# Altium footprint library czc.PcbLib: 157 footprints (part 2 of 10)
Each footprint in its own frame and in the unit in brackets; x right, y up, seen from the top. Pads: shape width x height; smd on the part's side, far side on the other; paste and mask are expansions set on the pad; w line width, h text height; cw(c..) or ccw(c..) is an arc to the next point about the centre after c.
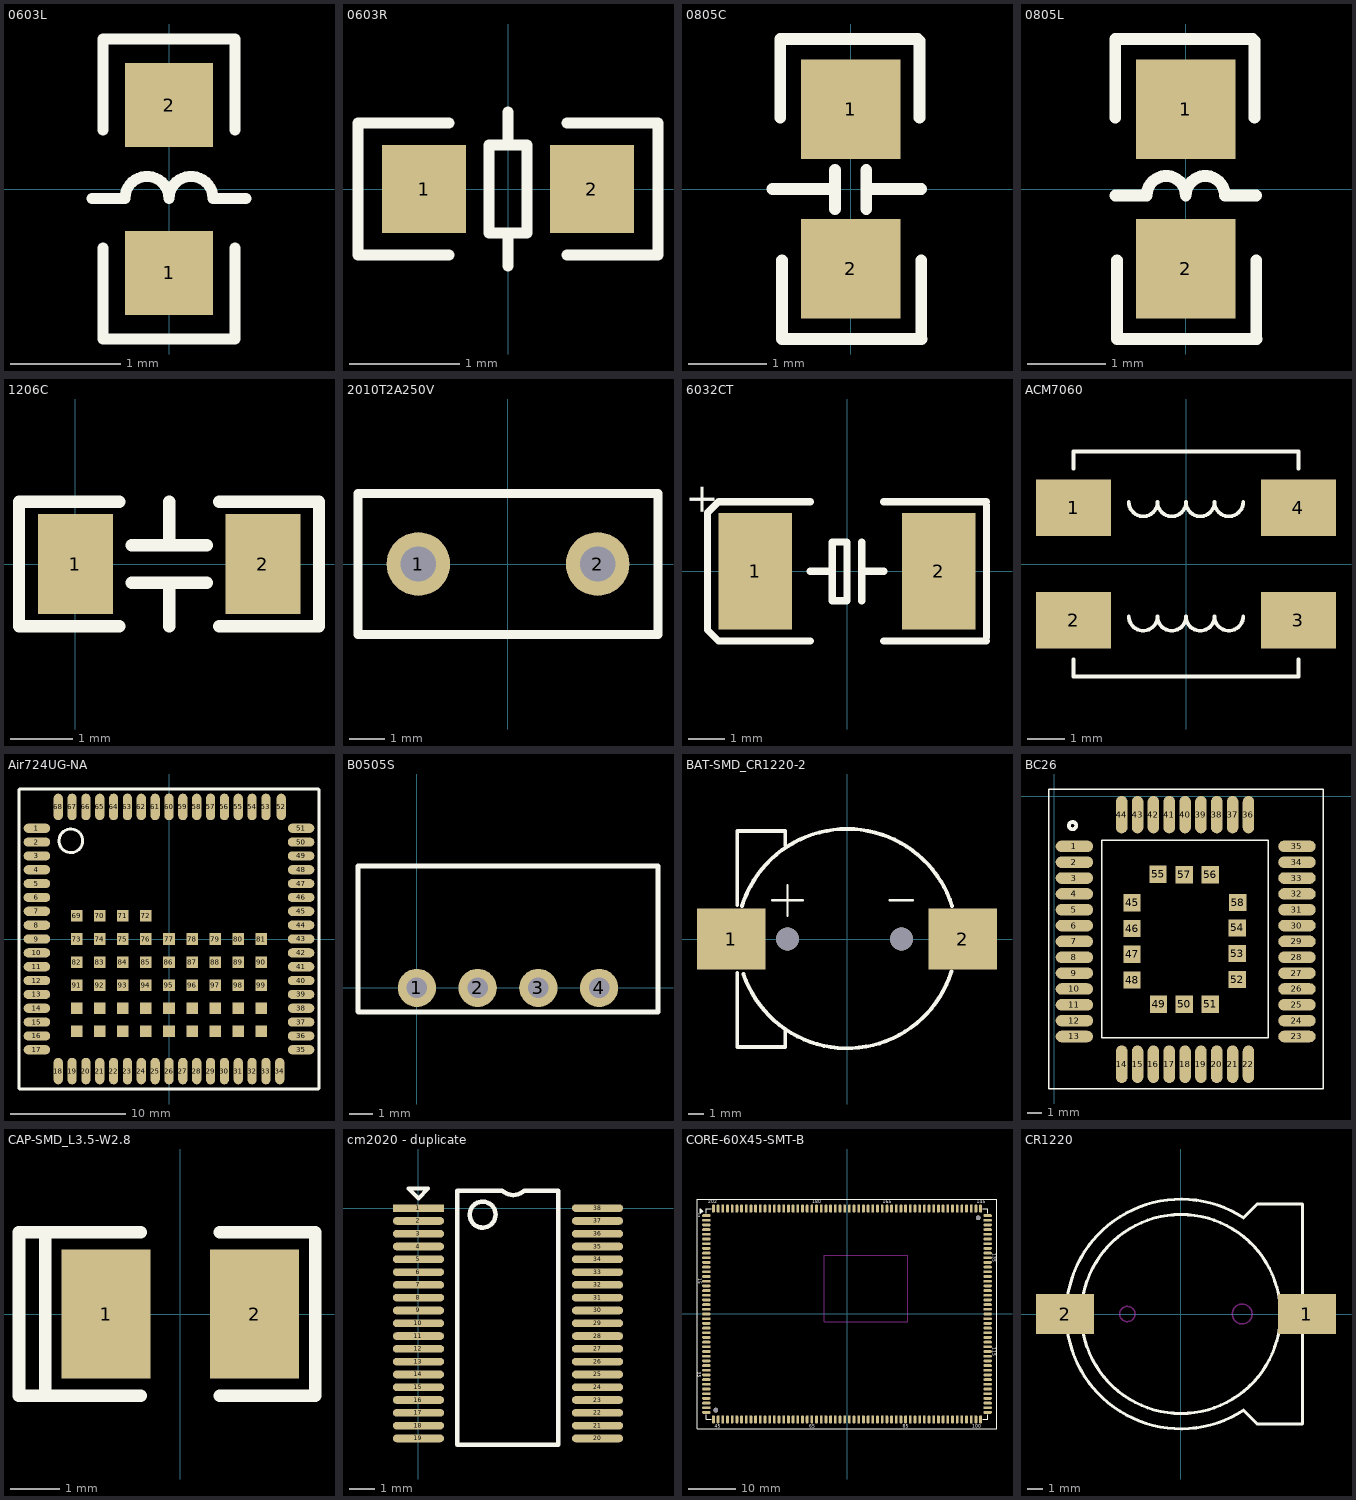
[diagram p1: the footprints below, top view; thin cyan lines are the x and y axes]

## 0603L [mil]
pads (2):
  rect 31.5x30 smd: 1(0,-30) 2(0,30)
Top Overlay:
  lines w3.94: -27.56,-3.38 -15.75,-3.38 cw(c-7.87,-3.38) 0,-3.38 cw(c7.87,-3.38) 15.75,-3.38 27.56,-3.38 ; -23.62,-21.18 -23.62,-53.62 23.62,-53.62 23.62,-21.18 ; -23.62,21.18 -23.62,53.62 23.62,53.62 23.62,21.18
3D body "User Library-FB_1608-1.STEP": height 15.75, standoff -15.75, extent -16.5,-31.5 15,31.5

## 0603R [mil]
pads (2):
  rect 30x31.5 smd: 1(-30,0) 2(30,0)
Top Overlay:
  lines w3.94: -21.18,-23.62 -53.62,-23.62 -53.62,23.62 -21.18,23.62 ; 0,-27.56 0,-15.75 ; 0,15.75 0,27.56 ; 21.18,-23.62 53.62,-23.62 53.62,23.62 21.18,23.62 ; -6.86,-15.75 6.86,-15.75 6.86,15.75 -6.86,15.75 -6.86,-15.75
3D body "RES0603.STEP": height 17.72, standoff 0, extent -31.49,-16.14 31.51,16.15
3D body: height 47.24, standoff 0, extent -30,0 -30,0

## 0805C [mil]
pads (2):
  rect 50x50 smd: 1(0,40) 2(0,-40)
Top Overlay:
  lines w5: 33.7,75.43 34.57,74.57
  lines w5.91: -39.37,0 -7.87,0 ; -35.43,35.87 -35.43,55.87 -35.43,75.43 33.7,75.43 ; -34.57,-75.43 35.67,-75.43 ; -34.57,-75.04 -34.57,-55.87 -34.57,-35.87 ; -7.87,-10.12 -7.87,9.57 ; 7.87,-10.12 7.87,9.57 ; 7.87,0 35.43,0 ; 34.57,35.87 34.57,55.87 34.57,74.57 ; 35.43,-75.2 35.43,-55.87 35.43,-35.87
3D body "Capacitor 0805 SMD.step": height 36.61, standoff -0.39, extent -30,-64.06 25.12,54.06

## 0805L [mil]
pads (2):
  rect 50x50 smd: 1(0,40) 2(0,-40)
Top Overlay:
  lines w5: 33.7,75.43 34.57,74.57
  lines w5.91: -35.43,-3.31 -19.68,-3.31 cw(c-9.84,-3.31) 0,-3.31 cw(c9.84,-3.31) 19.68,-3.31 35.43,-3.31 ; -35.43,35.87 -35.43,55.87 -35.43,75.43 33.7,75.43 ; -34.57,-75.43 35.67,-75.43 ; -34.57,-75.04 -34.57,-55.87 -34.57,-35.87 ; 34.57,35.87 34.57,55.87 34.57,74.57 ; 35.43,-75.2 35.43,-55.87 35.43,-35.87
3D body "0805L.STEP": height 19.68, standoff 0, extent -24.61,-39.36 24.6,39.38

## 1206C [mm]
pads (2):
  rect 1.2x1.6 smd: 1(0,0) 2(3,0)
Top Overlay:
  lines w0.2: 0.7,-1 -0.9,-1 -0.9,1 0.7,1 ; 0.9,-0.3 2.1,-0.3 ; 0.9,0.3 2.1,0.3 ; 1.5,-1 1.5,-0.3 ; 1.5,0.3 1.5,1 ; 2.3,-1 3.9,-1 3.9,1 2.3,1
3D body "User Library-Chip Cap_MLCC_1206 (3216)_C.step": height 0.95, standoff 0, extent -0.076,-0.762 3.124,0.838

## 2010T2A250V [mm]
pads (2):
  round 1.8 hole 1: 1(-2.54,0) 2(2.54,0)
Top Overlay:
  lines w0.254: -4.25,-2 4.25,-2 4.25,2 -4.25,2 -4.25,-2

## 6032CT [mm]
pads (2):
  rect 2x3.175 smd: 1(-2.5,0) 2(2.5,0)
Top Overlay:
  lines w0.2: -1,-1.9 -3.5,-1.9 -3.8,-1.6 -3.8,1.6 -3.5,1.9 -1,1.9 ; -1,0 -0.4,0 ; 0.4,-0.8 0.4,0.8 ; 0.4,0 1,0 ; 1,-1.9 3.8,-1.9 ; 1,1.9 3.8,1.9 ; 3.8,-1.8 3.8,1.8 ; -0.4,-0.8 -0.4,0.8 0,0.8 0,-0.8 -0.4,-0.8
  text "+" at -3.6,1.5 h0.8
3D body "TAJ-C.STEP": height 2.6, standoff 0, extent -2.952,-1.778 3.048,1.422

## ACM7060 [mm]
pads (4):
  rect 2x1.5 smd: 1(-3,1.5) 2(-3,-1.5) 3(3,-1.5) 4(3,1.5)
Top Overlay:
  lines w0.1: -3,-2.54 -3,-3 3,-3 3,-2.54 ; -3,2.54 -3,3 3,3 3,2.54 ; -1.524,-1.397 ccw(c-1.143,-1.397) -0.762,-1.397 ccw(c-0.381,-1.397) 0,-1.397 ccw(c0.381,-1.397) 0.762,-1.397 ccw(c1.143,-1.397) 1.524,-1.397 ; -1.524,1.651 ccw(c-1.143,1.651) -0.762,1.651 ccw(c-0.381,1.651) 0,1.651 ccw(c0.381,1.651) 0.762,1.651 ccw(c1.143,1.651) 1.524,1.651

## Air724UG-NA [mm]
pads (117):
  oval 2.3x0.8 smd: 1(-11.45,9.6) 2(-11.45,8.4) 3(-11.45,7.2) 4(-11.45,6) 5(-11.45,4.8) 6(-11.45,3.6) 7(-11.45,2.4) 8(-11.45,1.2) 9(-11.45,0) 10(-11.45,-1.2) 11(-11.45,-2.4) 12(-11.45,-3.6) 13(-11.45,-4.8) 14(-11.45,-6) 15(-11.45,-7.2) 16(-11.45,-8.4) 17(-11.45,-9.6) 35(11.45,-9.6) 36(11.45,-8.4) 37(11.45,-7.2) 38(11.45,-6) 39(11.45,-4.8) 40(11.45,-3.6) 41(11.45,-2.4) 42(11.45,-1.2) 43(11.45,0) 44(11.45,1.2) 45(11.45,2.4) 46(11.45,3.6) 47(11.45,4.8) 48(11.45,6) 49(11.45,7.2) 50(11.45,8.4) 51(11.45,9.6)
  oval 0.8x2.3 smd: 18(-9.6,-11.45) 19(-8.4,-11.45) 20(-7.2,-11.45) 21(-6,-11.45) 22(-4.8,-11.45) 23(-3.6,-11.45) 24(-2.4,-11.45) 25(-1.2,-11.45) 26(0,-11.45) 27(1.2,-11.45) 28(2.4,-11.45) 29(3.6,-11.45) 30(4.8,-11.45) 31(6,-11.45) 32(7.2,-11.45) 33(8.4,-11.45) 34(9.6,-11.45) 52(9.727,11.45) 53(8.4,11.45) 54(7.2,11.45) 55(6,11.45) 56(4.8,11.45) 57(3.6,11.45) 58(2.4,11.45) 59(1.2,11.45) 60(0,11.45) 61(-1.2,11.45) 62(-2.4,11.45) 63(-3.6,11.45) 64(-4.8,11.45) 65(-6,11.45) 66(-7.2,11.45) 67(-8.4,11.45) 68(-9.6,11.45)
  rect 1x1 smd: 69(-8,2) 70(-6,2) 71(-4,2) 72(-2,2) 73(-8,0) 74(-6,0) 75(-4,0) 76(-2,0) 77(0,0) 78(2,0) 79(4,0) 80(6,0) 81(8,0) 82(-8,-2) 83(-6,-2) 84(-4,-2) 85(-2,-2) 86(0,-2) 87(2,-2) 88(4,-2) 89(6,-2) 90(8,-2) 91(-8,-4) 92(-6,-4) 93(-4,-4) 94(-2,-4) 95(0,-4) 96(2,-4) 97(4,-4) 98(6,-4) 99(8,-4) 100(-8,-6) 101(-6,-6) 102(-4,-6) 103(-2,-6) 104(0,-6) 105(2,-6) 106(4,-6) 107(6,-6) 108(8,-6) 109(-8,-8) 110(-6,-8) 111(-4,-8) 112(-2,-8) 113(0,-8) 114(2,-8) 115(4,-8) 116(6,-8) 117(8,-8)
Top Overlay:
  circle w0.254: c-8.509,8.509 r1.024
  lines w0.254: -13,-12.954 -13,12.954 ; -12.954,-13 12.954,-13 ; -12.954,13 12.954,13 ; 13,-12.954 13,12.954

## B0505S [mm]
pads (4):
  round 1.6 hole 0.85: 1(0,0) 2(2.54,0) 3(5.08,0) 4(7.62,0)
Top Overlay:
  lines w0.203: -2.464,2.134 -2.464,5.105 10.084,5.105 10.084,-1.016 -2.438,-1.016 -2.464,-0.991 -2.464,5.08 -2.438,5.105

## BAT-SMD_CR1220-2 [mm]
pads (4):
  rect 4.5x4 smd: 1(-7.62,0) 2(7.62,0)
  round 1.5 hole 1.5 unplated: ""(-3.912,0) ""(3.581,0)
Top Overlay:
  lines w0.152: -4.928,2.54 -2.896,2.54 ; -3.912,1.524 -3.912,3.556 ; 2.819,2.54 4.343,2.54
  lines w0.254: -7.22,-2.231 -7.22,-7.112 -4.064,-7.112 -4.064,-5.912 ; -7.22,2.231 -7.22,7.112 -4.064,7.112 -4.064,6.171 ; -6.911,2.175 cw(c0,0) 6.918,2.154 ; -6.815,-2.297 ccw(c0,0) 6.871,-2.124

## BC26 [mm]
height 0.55
pads (58):
  oval 2.6x0.8 smd: 1(1.397,-3.475) 2(1.397,-4.575) 3(1.397,-5.675) 4(1.397,-6.775) 5(1.397,-7.875) 6(1.397,-8.975) 7(1.397,-10.075) 8(1.397,-11.175) 9(1.397,-12.275) 10(1.397,-13.375) 11(1.397,-14.475) 12(1.397,-15.575) 13(1.397,-16.675) 23(16.847,-16.675) 24(16.847,-15.575) 25(16.847,-14.475) 26(16.847,-13.375) 27(16.847,-12.275) 28(16.847,-11.175) 29(16.847,-10.075) 30(16.847,-8.975) 31(16.847,-7.875) 32(16.847,-6.775) 33(16.847,-5.675) 34(16.847,-4.575) 35(16.847,-3.475)
  oval 0.8x2.6 smd: 14(4.681,-18.6) 15(5.781,-18.6) 16(6.881,-18.6) 17(7.981,-18.6) 18(9.081,-18.6) 19(10.181,-18.6) 20(11.281,-18.6) 21(12.381,-18.6) 22(13.481,-18.6) 36(13.481,-1.273) 37(12.381,-1.273) 38(11.281,-1.273) 39(10.181,-1.273) 40(9.081,-1.273) 41(7.981,-1.273) 42(6.881,-1.273) 43(5.781,-1.273) 44(4.681,-1.273)
  rect 1.2x1.2 smd: 45(5.401,-7.381) 46(5.401,-9.181) 47(5.401,-10.959) 48(5.401,-12.759) 49(7.242,-14.434) 50(9.02,-14.434) 51(10.82,-14.434) 52(12.701,-12.718) 53(12.701,-10.918) 54(12.701,-9.14) 55(7.201,-5.415) 56(10.82,-5.451) 57(9.02,-5.451) 58(12.742,-7.376)
Top Overlay:
  circle w0.254: c1.27,-2.032 r0.254
  lines w0.1: -0.381,-20.32 -0.381,0.508 18.669,0.508 18.669,-20.32 -0.381,-20.32 ; 3.302,-16.764 14.859,-16.764 14.859,-3.048 3.302,-3.048 3.302,-16.764

## CAP-SMD_L3.5-W2.8 [mm]
pads (2):
  rect 1.8x2.6 smd: 1(-1.501,0) 2(1.501,0)
Top Overlay:
  lines w0.254: -0.8,-1.65 -2.727,-1.65 ; -0.8,1.65 -2.727,1.65 ; 0.8,-1.65 2.727,-1.65 2.727,1.65 0.8,1.65 ; -2.727,-1.65 -2.727,1.65 ; -2.727,-1.65 -3.26,-1.65 -3.26,1.65 -2.727,1.65

## cm2020 - duplicate [mm]
pads (38):
  rect 2x0.3 smd: 1(0,0)
  oval 2x0.3 smd: 2(0,-0.5) 3(0,-1) 4(0,-1.5) 5(0,-2) 6(0,-2.5) 7(0,-3) 8(0,-3.5) 9(0,-4) 10(0,-4.5) 11(0,-5) 12(0,-5.5) 13(0,-6) 14(0,-6.5) 15(0,-7) 16(0,-7.5) 17(0,-8) 18(0,-8.5) 19(0,-9) 20(7,-9) 21(7,-8.5) 22(7,-8) 23(7,-7.5) 24(7,-7) 25(7,-6.5) 26(7,-6) 27(7,-5.5) 28(7,-5) 29(7,-4.5) 30(7,-4) 31(7,-3.5) 32(7,-3) 33(7,-2.5) 34(7,-2) 35(7,-1.5) 36(7,-1) 37(7,-0.5) 38(7,0)
Top Overlay:
  circle w0.178: c2.509,-0.254 r0.508
  lines w0.152: -0.381,0.762 0,0.381 0.381,0.762 -0.381,0.762
  lines w0.178: 1.524,-9.25 5.461,-9.25 5.461,0.686 4.137,0.686 cw(c3.707,1.116) 3.277,0.686 1.524,0.686 1.524,-9.25

## CORE-60X45-SMT-B [mm] "CORE-60X45-SMT-B"
pads (204):
  oval 1.8x0.6 smd: 1(-30,21) 2(-30,20) 3(-30,19) 4(-30,18) 5(-30,17) 6(-30,16) 7(-30,15) 8(-30,14) 9(-30,13) 10(-30,12) 11(-30,11) 12(-30,10) 13(-30,9) 14(-30,8) 15(-30,7) 16(-30,6) 17(-30,5) 18(-30,4) 19(-30,3) 20(-30,2) 21(-30,1) 22(-30,0) 23(-30,-1) 24(-30,-2) 25(-30,-3) 26(-30,-4) 27(-30,-5) 28(-30,-6) 29(-30,-7) 30(-30,-8) 31(-30,-9) 32(-30,-10) 33(-30,-11) 34(-30,-12) 35(-30,-13) 36(-30,-14) 37(-30,-15) 38(-30,-16) 39(-30,-17) 40(-30,-18) 41(-30,-19) 42(-30,-20) 43(-30,-21) 102(30,-21) 103(30,-20) 104(30,-19) 105(30,-18) 106(30,-17) 107(30,-16) 108(30,-15) 109(30,-14) 110(30,-13) 111(30,-12) 112(30,-11) 113(30,-10) 114(30,-9) 115(30,-8) 116(30,-7) 117(30,-6) 118(30,-5) 119(30,-4) 120(30,-3) 121(30,-2) 122(30,-1) 123(30,0) 124(30,1) 125(30,2) 126(30,3) 127(30,4) 128(30,5) 129(30,6) 130(30,7) 131(30,8) 132(30,9) 133(30,10) 134(30,11) 135(30,12) 136(30,13) 137(30,14) 138(30,15) 139(30,16) 140(30,17) 141(30,18) 142(30,19) 143(30,20) 144(30,21)
  oval 0.6x1.8 smd: 44(-28.5,-22.5) 45(-27.5,-22.5) 46(-26.5,-22.5) 47(-25.5,-22.5) 48(-24.5,-22.5) 49(-23.5,-22.5) 50(-22.5,-22.5) 51(-21.5,-22.5) 52(-20.5,-22.5) 53(-19.5,-22.5) 54(-18.5,-22.5) 55(-17.5,-22.5) 56(-16.5,-22.5) 57(-15.5,-22.5) 58(-14.5,-22.5) 59(-13.5,-22.5) 60(-12.5,-22.5) 61(-11.5,-22.5) 62(-10.5,-22.5) 63(-9.5,-22.5) 64(-8.5,-22.5) 65(-7.5,-22.5) 66(-6.5,-22.5) 67(-5.5,-22.5) 68(-4.5,-22.5) 69(-3.5,-22.5) 70(-2.5,-22.5) 71(-1.5,-22.5) 72(-0.5,-22.5) 73(0.5,-22.5) 74(1.5,-22.5) 75(2.5,-22.5) 76(3.5,-22.5) 77(4.5,-22.5) 78(5.5,-22.5) 79(6.5,-22.5) 80(7.5,-22.5) 81(8.5,-22.5) 82(9.5,-22.5) 83(10.5,-22.5) 84(11.5,-22.5) 85(12.5,-22.5) 86(13.5,-22.5) 87(14.5,-22.5) 88(15.5,-22.5) 89(16.5,-22.5) 90(17.5,-22.5) 91(18.5,-22.5) 92(19.5,-22.5) 93(20.5,-22.5) 94(21.5,-22.5) 95(22.5,-22.5) 96(23.5,-22.5) 97(24.5,-22.5) 98(25.5,-22.5) 99(26.5,-22.5) 100(27.5,-22.5) 101(28.5,-22.5) 145(28.5,22.5) 146(27.5,22.5) 147(26.5,22.5) 148(25.5,22.5) 149(24.5,22.5) 150(23.5,22.5) 151(22.5,22.5) 152(21.5,22.5) 153(20.5,22.5) 154(19.5,22.5) 155(18.5,22.5) 156(17.5,22.5) 157(16.5,22.5) 158(15.5,22.5) 159(14.5,22.5) 160(13.5,22.5) 161(12.5,22.5) 162(11.5,22.5) 163(10.5,22.5) 164(9.5,22.5) 165(8.5,22.5) 166(7.5,22.5) 167(6.5,22.5) 168(5.5,22.5) 169(4.5,22.5) 170(3.5,22.5) 171(2.5,22.5) 172(1.5,22.5) 173(0.5,22.5) 174(-0.5,22.5) 175(-1.5,22.5) 176(-2.5,22.5) 177(-3.5,22.5) 178(-4.5,22.5) 179(-5.5,22.5) 180(-6.5,22.5) 181(-7.5,22.5) 182(-8.5,22.5) 183(-9.5,22.5) 184(-10.5,22.5) 185(-11.5,22.5) 186(-12.5,22.5) 187(-13.5,22.5) 188(-14.5,22.5) 189(-15.5,22.5) 190(-16.5,22.5) 191(-17.5,22.5) 192(-18.5,22.5) 193(-19.5,22.5) 194(-20.5,22.5) 195(-21.5,22.5) 196(-22.5,22.5) 197(-23.5,22.5) 198(-24.5,22.5) 199(-25.5,22.5) 200(-26.5,22.5) 201(-27.5,22.5) 202(-28.5,22.5)
  round 1 hole 1: ""(-28,-20.5) ""(28,20.5)
Top Overlay:
  rectangle: -31.321,21.65 -31.067,22.248
  region: -31.242,21.675 -30.799,21.896 -30.979,22.258 -31.423,22.036
  region: -31.122,21.974 -31.115,21.971 -31.006,22.192 -31.013,22.195
  lines w0.15: -30,-21.5 -30,-22.5 -29,-22.5 ; -30,21.5 -30,22.5 -29,22.5 ; 29,-22.5 30,-22.5 30,-21.5 ; 29,22.5 30,22.5 30,21.5 ; -32,-24.5 -30,-24.5 30,-24.5 32,-24.5 32,-22.5 32,22.5 32,24.5 30,24.5 -30,24.5 -32,24.5 -32,22.5 -32,-22.5 -32,-24.5
  lines w0.2: -31.321,21.452 -30.813,21.96 -31.321,22.468 -31.321,21.452
  text "1" at -31.8,20.6 h0.7
  text "202" at -29.6,23.6 h0.7
  text "45" at -28.2,-24.3 h0.7
  text "65" at -8.001,-24.257 h0.7
  text "85" at 11.938,-24.257 h0.7
  text "100" at 26.67,-24.257 h0.7
  text "115" at 31.115,-7.112 h0.7
  text "135" at 31.115,12.954 h0.7
  text "35" at -31.8,-12.3 h0.7
  text "15" at -31.75,7.62 h0.7
  text "145" at 27.686,23.622 h0.7
  text "165" at 7.62,23.622 h0.7
  text "180" at -7.366,23.622 h0.7
Keep-Out Layer:
  lines w0.2: -4.83,12.56 -4.83,-1.651 13,-1.651 13,12.56 ; -4.826,12.573 12.954,12.573
Mechanical 7:

## CR1220 [mm]
pads (2):
  rect 3.8x2.6 smd: 1(8.23,0) 2(-7.57,0)
Top Overlay:
  circle w0.2: c0,0 r6.5
  lines w0.152: 5,7.2 5,7.2
  lines w0.2: 4.085,-6.29 cw(c0,0) 4.085,6.29 ; 4.1,-6.3 5,-7.2 7.9,-7.2 ; 4.1,6.3 5,7.2 7.9,7.2 ; 7.94,-7.2 7.94,7.2
Keep-Out Layer:
  circle w0.1: c4,0 r0.65
  circle w0.1: c-3.5,0 r0.5
3D body "User Library-Battery Holder for CR1220 SMD.step": height 6.03, standoff 1.28, extent -8.892,-7.256 9.908,7.493